# Altium schematic symbol library BIPOLAR-PNP-BCE.SchLib: 1 symbol
Pins are listed as number, name and electrical type; pins without a type are passive.

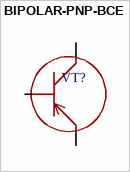
[diagram p0: symbol BIPOLAR-PNP-BCE]

## BIPOLAR-PNP-BCE
designator VT?
pins: 1 B, 2 C, 3 E